# Altium schematic symbol library MD30CR2.SchLib: 1 symbol
Pins are listed as number, name and electrical type; pins without a type are passive.

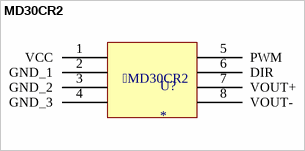
[diagram p0: symbol MD30CR2]

## MD30CR2
designator U?
Datasheet: https://robu.in/wp-content/uploads/2014/12/MD30C-Users-Manual-Google-Docs.pdf
pins: 1 VCC (power), 2 GND_1 (power), 3 GND_2 (power), 4 GND_3 (power), 5 PWM, 6 DIR, 7 VOUT+, 8 VOUT-